# Altium footprint library SO-8 1487UD2U.PcbLib: 1 footprints
Each footprint in its own frame and in the unit in brackets; x right, y up, seen from the top. Pads: shape width x height; smd on the part's side, far side on the other; paste and mask are expansions set on the pad; w line width, h text height; cw(c..) or ccw(c..) is an arc to the next point about the centre after c.
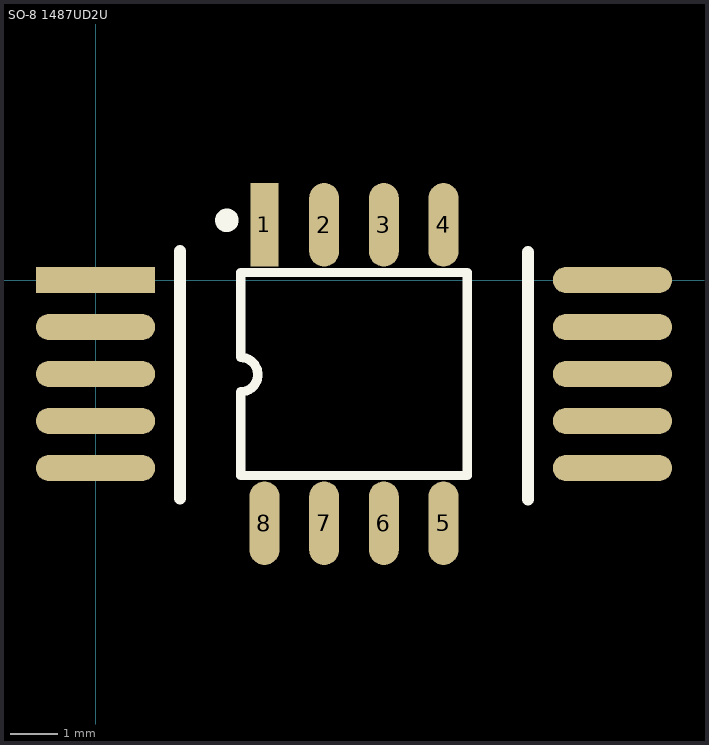
[diagram p0: the footprint, top view; thin cyan lines are the x and y axes]

## SO-8 1487UD2U [mm]
pads (18):
  rect 0.6x1.778 smd: 1(3.595,1.175)
  oval 0.635x1.778 smd: 2(4.865,1.175) 3(6.135,1.175) 4(7.405,1.175) 5(7.405,-5.175) 6(6.135,-5.175) 7(4.865,-5.175) 8(3.595,-5.175)
  oval 2.54x0.559 smd: ""(0,-4) ""(0,-3) ""(0,-2) ""(0,-1) ""(11,-4) ""(11,-3) ""(11,-2) ""(11,-1) ""(11,0)
  rect 2.54x0.559 smd: ""(0,0)
Top Overlay:
  circle w0.25: c2.794,1.27 r0.125
  lines w0.2: 3.087,-1.647 cw(c3.087,-2.014) 3.087,-2.381 3.087,-4.159 7.913,-4.159 7.913,0.159 3.087,0.159 3.087,-1.619
  lines w0.254: 1.8,-4.651 1.8,0.619 ; 9.2,-4.67 9.2,0.6
3D body "SO-8.step": height 0, standoff -1.45, extent 3.011,-4.958 7.913,0.82
3D body "N02.8-1B.STEP": height 2.9, standoff 0, extent 1.339,-5.25 9.838,1.25